# EAGLE library part SI7020_DIP (library FlightCPU)
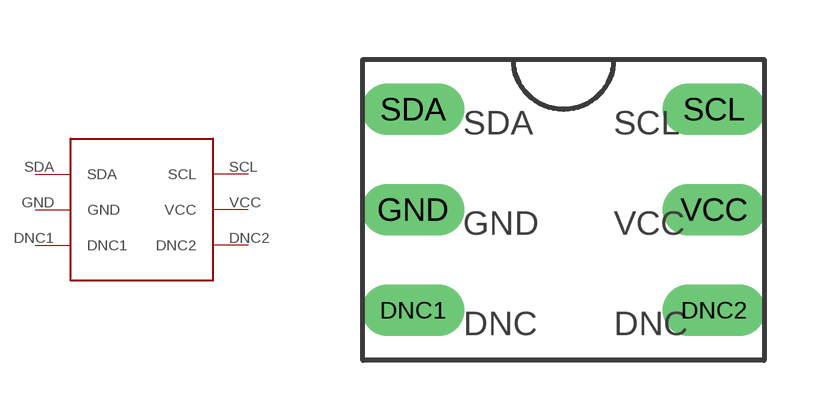
[diagram p1: symbol with the pads of SI7020; footprint SI7020]

Designator prefix -

## SI7020_DIP  [SI7020]
DNC1  DNC1
DNC2  DNC2
GND  GND
SCL  SCL
SDA  SDA
VCC  VCC

## Footprint SI7020 (pad centres in mm)
drill 0.8 long: DNC1 1.27,1.27; DNC2 8.89,1.27; GND 1.27,3.81; SCL 8.89,6.35; SDA 1.27,6.35; VCC 8.89,3.81